# Altium footprint library Main.PcbLib: 23 footprints (part 1 of 2)
Each footprint in its own frame and in the unit in brackets; x right, y up, seen from the top. Pads: shape width x height; smd on the part's side, far side on the other; paste and mask are expansions set on the pad; w line width, h text height; cw(c..) or ccw(c..) is an arc to the next point about the centre after c.
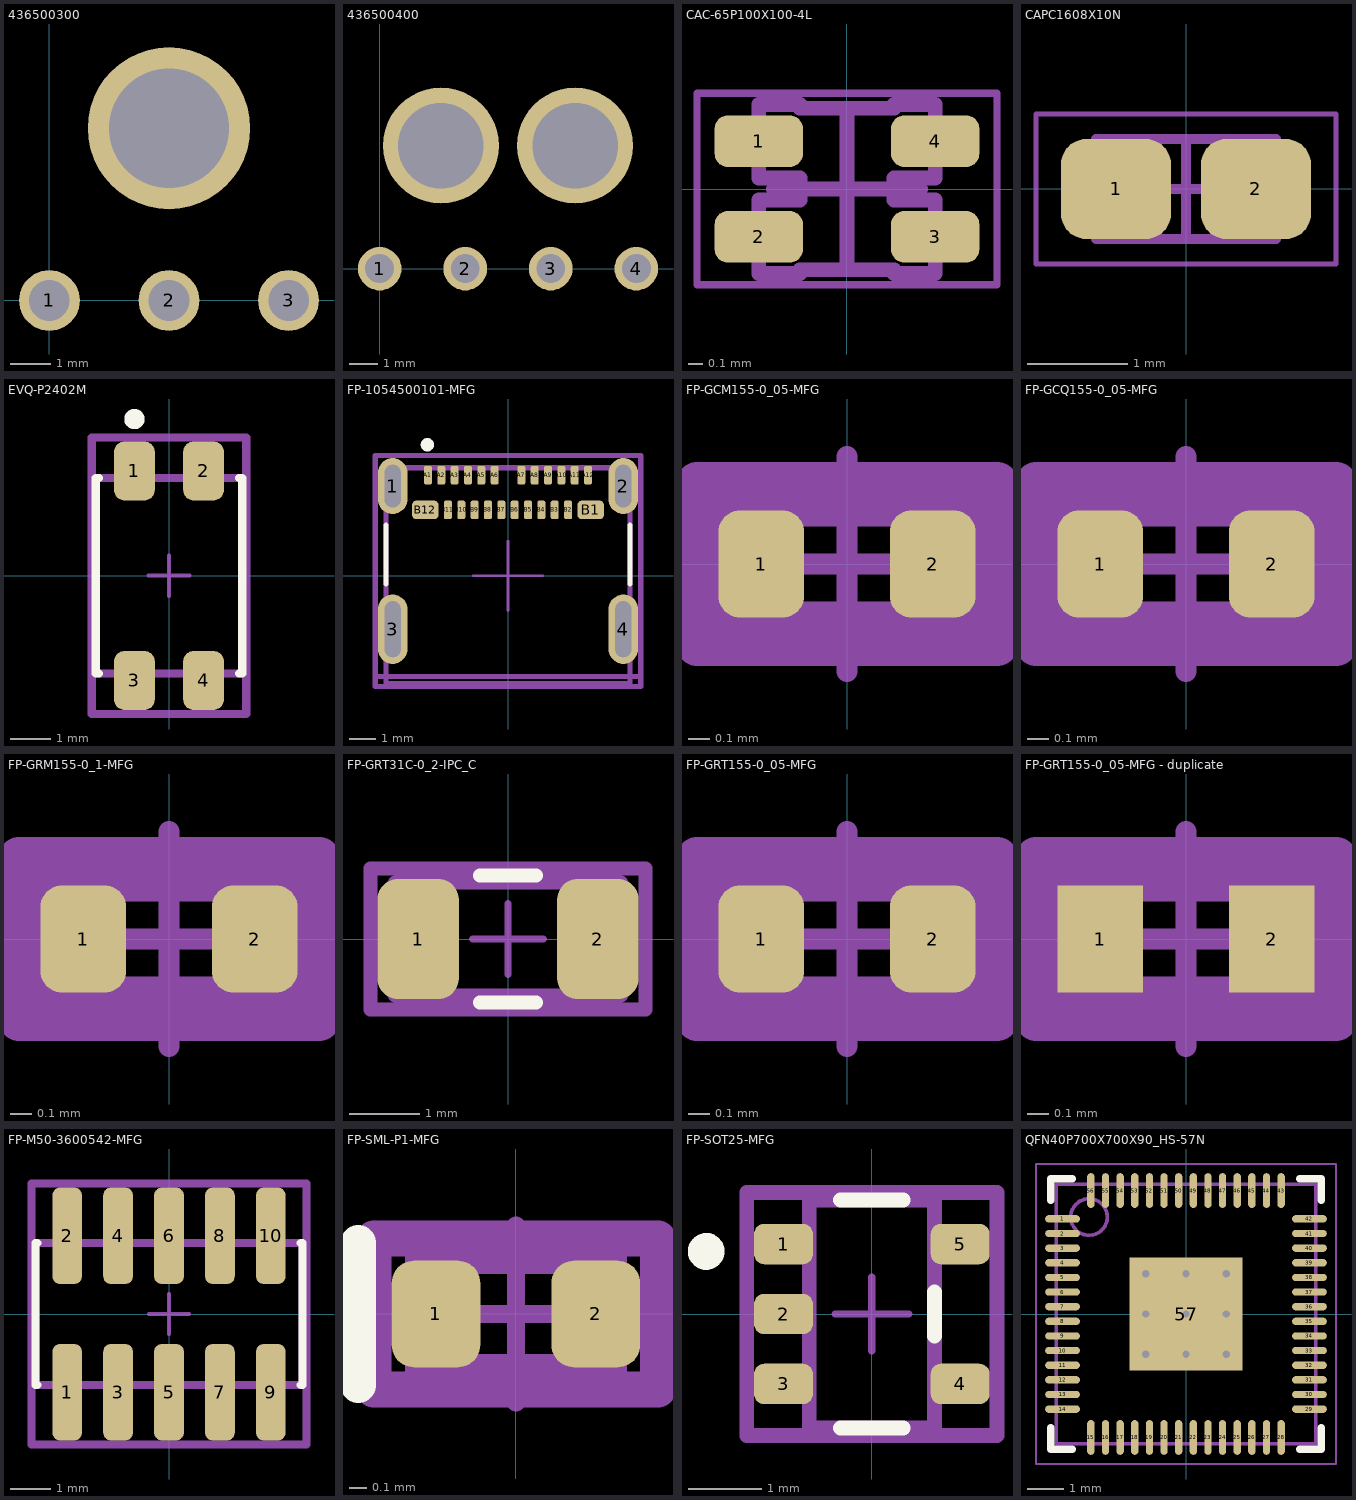
[diagram p0: the footprints below, top view; thin cyan lines are the x and y axes]

## 436500300 [mil] "Molex 3 Pin Micro-Fit Single Row"
pads (4):
  round 60 hole 40 paste+0: 1(0,0) 2(118,0) 3(236,0)
  round 160 hole 118 paste+0: ""(118,170)
3D body "436500300.stp": height 223.43, standoff -127.17, extent -131.02,-39.88 367.02,349.88

## 436500400 [mil] "Molex 4 Pin Micro-Fit Single Row"
pads (6):
  round 60 hole 40 paste+0: 1(0,0) 2(118,0) 3(236,0) 4(354,0)
  round 160 hole 118 paste+0: ""(84.5,170) ""(269.5,170)
3D body "436500400.stp": height 220.43, standoff -130.17, extent -131.07,-39.88 485.07,349.88

## CAC-65P100X100-4L [mm] "Chip Array, ConvexE, 4-Leads, Pitch 0.65mm,  Body 1.00x1.00mm,  IPC High Density"
height 0.45
pads (4):
  rrect50% 0.6x0.35 smd: 1(-0.6,0.325) 2(-0.6,-0.325) 3(0.6,-0.325) 4(0.6,0.325)
Top Assembly:
  lines w0.1: -0.6,-0.575 -0.6,-0.075 -0.32,-0.075 -0.32,0.075 -0.6,0.075 -0.6,0.575 -0.32,0.575 -0.32,0.55 0.32,0.55 0.32,0.575 0.6,0.575 0.6,0.075 0.32,0.075 0.32,-0.075 0.6,-0.075 0.6,-0.575 0.32,-0.575 0.32,-0.55 -0.32,-0.55 -0.32,-0.575 -0.6,-0.575
Top Courtyard:
  lines w0.05: -1.02,-0.65 -1.02,0.65 1.02,0.65 1.02,-0.65 -1.02,-0.65
  lines w0.1: -0.5,0 0.5,0 ; 0,-0.5 0,0.5
3D body "CAC-65P100X100-4L.step": height 0.45, standoff 0, extent -0.6,-0.55 0.6,0.55

## CAPC1608X10N [mm] "Chip Capacitor, 2-Leads, Body 1.60x0.80mm, IPC Medium Density"
height 1
pads (2):
  rrect50% 1.1x1 smd: 1(-0.7,0) 2(0.7,0)
Top Assembly:
  lines w0.1: -0.9,-0.5 0.9,-0.5 0.9,0.5 -0.9,0.5 -0.9,-0.5
Top Courtyard:
  lines w0.05: -1.5,-0.75 1.5,-0.75 1.5,0.75 -1.5,0.75 -1.5,-0.75
  lines w0.1: -0.5,0 0.5,0 ; 0,-0.5 0,0.5
3D body "CAPC1608X10N.step": height 1, standoff 0, extent -0.9,-0.5 0.9,0.5

## EVQ-P2402M [mm] "Tactile Switch"
pads (4):
  rrect50% 1x1.45 smd paste+0: 1(-0.85,2.575) 2(0.85,2.575) 3(-0.85,-2.575) 4(0.85,-2.575)
Top Overlay:
  circle w0.25: c-0.85,3.85 r0.125
  lines w0.2: -1.725,-2.4 -1.8,-2.4 -1.8,2.4 -1.725,2.4 ; 1.725,-2.4 1.8,-2.4 1.8,2.4 1.725,2.4
Mechanical 5:
  lines w0.2: -1.9,-3.4 -1.9,3.4 1.9,3.4 1.9,-3.4 -1.9,-3.4
Mechanical 13:
  lines w0.2: -1.8,-2.4 -1.8,2.4 1.8,2.4 1.8,-2.4 -1.8,-2.4
Mechanical 15:
  lines w0.2: -1.9,-3.4 -1.9,3.4 1.9,3.4 1.9,-3.4 -1.9,-3.4
Mechanical 16:
  lines w0.1: -0.5,0 0.5,0 ; 0,-0.5 0,0.5
3D body "Switch_Panasonic_Electronic_Components_EVQ-P2402M_eec.STEP": height 0.25, standoff 0, extent -1.9,-3.4 1.9,3.4

## FP-1054500101-MFG [mm]
pads (28):
  rrect100% 1.1x2.1 hole 1.6 slot 0.6 at 0 deg paste-1000 mask+0: 1(-4.32,3.36) 2(4.32,3.36)
  rrect100% 1.1x2.6 hole 2.1 slot 0.6 at 0 deg paste-1000 mask+0: 3(-4.32,-2) 4(4.32,-2)
  rrect50% 0.3x0.7 smd paste+0 mask+0: A1(-3,3.77) A2(-2.5,3.77) A3(-2,3.77) A4(-1.5,3.77) A5(-1,3.77) A6(-0.5,3.77) A7(0.5,3.77) A8(1,3.77) A9(1.5,3.77) A10(2,3.77) A11(2.5,3.77) A12(3,3.77) B2(2.25,2.47) B3(1.75,2.47) B4(1.25,2.47) B5(0.75,2.47) B6(0.25,2.47) B7(-0.25,2.47) B8(-0.75,2.47) B9(-1.25,2.47) B10(-1.75,2.47) B11(-2.25,2.47)
  rrect50% 1x0.7 smd paste+0 mask+0: B1(3.1,2.47) B12(-3.1,2.47)
Top Overlay:
  circle w0.25: c-3.02,4.91 r0.125
  lines w0.2: -4.57,-0.3 -4.57,1.9 ; 4.57,-0.3 4.57,1.9
Top 3D Body:
  lines w0.2: -4.97,-3.77 4.97,-3.77 ; -4.57,-4.05 -4.57,4.05 4.57,4.05 4.57,-4.05 -4.57,-4.05
Top Assembly:
  lines w0.2: -4.97,-4.15 -4.97,4.51 4.97,4.51 4.97,-4.15 -4.97,-4.15
Top Courtyard:
  lines w0.2: -4.97,-4.15 -4.97,4.51 4.97,4.51 4.97,-4.15 -4.97,-4.15
Top Component Center:
  lines w0.1: -1.299,0 1.299,0 ; 0,-1.299 0,1.299
3D body "1054500101.stp": height 3.23, standoff -0.73, extent -4.47,-3.9 4.47,4

## FP-GCM155-0_05-MFG [mm]
pads (2):
  rrect50% 0.4x0.5 smd paste+0 mask+0: 1(-0.4,0) 2(0.4,0)
Top 3D Body:
  lines w0.2: -0.525,-0.275 0.525,-0.275 0.525,0.275 -0.525,0.275 -0.525,-0.275
Top Assembly:
  lines w0.2: -0.7,-0.375 0.7,-0.375 0.7,0.375 -0.7,0.375 -0.7,-0.375
Top Courtyard:
  lines w0.2: -0.7,-0.375 0.7,-0.375 0.7,0.375 -0.7,0.375 -0.7,-0.375
Top Component Center:
  lines w0.1: -0.5,0 0.5,0 ; 0,-0.5 0,0.5
3D body "Cap_Murata_GCM155R71H271KA37D_eec.STEP": height 0.25, standoff 0, extent -0.7,-0.375 0.7,0.375

## FP-GCQ155-0_05-MFG [mm]
pads (2):
  rrect50% 0.4x0.5 smd paste+0 mask+0: 1(-0.4,0) 2(0.4,0)
Top 3D Body:
  lines w0.2: -0.525,-0.275 0.525,-0.275 0.525,0.275 -0.525,0.275 -0.525,-0.275
Top Assembly:
  lines w0.2: -0.7,-0.375 0.7,-0.375 0.7,0.375 -0.7,0.375 -0.7,-0.375
Top Courtyard:
  lines w0.2: -0.7,-0.375 0.7,-0.375 0.7,0.375 -0.7,0.375 -0.7,-0.375
Top Component Center:
  lines w0.1: -0.5,0 0.5,0 ; 0,-0.5 0,0.5
3D body "Cap_Murata_GCQ1555C1H3R4CB01J_eec.STEP": height 0.25, standoff 0, extent -0.7,-0.375 0.7,0.375

## FP-GRM155-0_1-MFG [mm]
pads (2):
  rrect50% 0.4x0.5 smd paste+0 mask+0: 1(-0.4,0) 2(0.4,0)
Top 3D Body:
  lines w0.2: -0.525,-0.275 0.525,-0.275 0.525,0.275 -0.525,0.275 -0.525,-0.275
Top Assembly:
  lines w0.2: -0.7,-0.375 0.7,-0.375 0.7,0.375 -0.7,0.375 -0.7,-0.375
Top Courtyard:
  lines w0.2: -0.7,-0.375 0.7,-0.375 0.7,0.375 -0.7,0.375 -0.7,-0.375
Top Component Center:
  lines w0.1: -0.5,0 0.5,0 ; 0,-0.5 0,0.5
3D body "Cap_Murata_GRM155C81E105KE11D_eec.STEP": height 0.25, standoff 0, extent -0.7,-0.375 0.7,0.375

## FP-GRT31C-0_2-IPC_C [mm]
pads (2):
  rrect50% 1.155x1.706 smd paste+0 mask+0: 1(-1.276,0) 2(1.276,0)
Top Overlay:
  lines w0.2: -0.398,-0.9 0.398,-0.9 ; -0.398,0.9 0.398,0.9
Top 3D Body:
  lines w0.2: -1.6,-0.8 -1.6,0.8 1.6,0.8 1.6,-0.8 -1.6,-0.8
Top Assembly:
  lines w0.2: -1.953,-1 -1.953,1 1.953,1 1.953,-1 -1.953,-1
Top Courtyard:
  lines w0.2: -1.953,-1 -1.953,1 1.953,1 1.953,-1 -1.953,-1
Top Component Center:
  lines w0.1: -0.5,0 0.5,0 ; 0,-0.5 0,0.5
3D body "Cap_Murata_GRT31CC80J476KE13L_eec.STEP": height 0.25, standoff 0, extent -1.953,-1 1.953,1

## FP-GRT155-0_05-MFG [mm]
pads (2):
  rrect50% 0.4x0.5 smd paste+0 mask+0: 1(-0.4,0) 2(0.4,0)
Top 3D Body:
  lines w0.2: -0.525,-0.275 -0.525,0.275 0.525,0.275 0.525,-0.275 -0.525,-0.275
Top Assembly:
  lines w0.2: -0.7,-0.375 -0.7,0.375 0.7,0.375 0.7,-0.375 -0.7,-0.375
Top Courtyard:
  lines w0.2: -0.7,-0.375 -0.7,0.375 0.7,0.375 0.7,-0.375 -0.7,-0.375
Top Component Center:
  lines w0.1: -0.5,0 0.5,0 ; 0,-0.5 0,0.5
3D body "Cap_Murata_GRT155C80G225KE13J_eec.STEP": height 0.25, standoff 0, extent -0.7,-0.375 0.7,0.375

## FP-GRT155-0_05-MFG - duplicate [mm]
pads (2):
  rect 0.4x0.5 smd paste+0 mask+0: 1(-0.4,0) 2(0.4,0)
Top 3D Body:
  lines w0.2: -0.525,-0.275 -0.525,0.275 0.525,0.275 0.525,-0.275 -0.525,-0.275
Top Assembly:
  lines w0.2: -0.7,-0.375 -0.7,0.375 0.7,0.375 0.7,-0.375 -0.7,-0.375
Top Courtyard:
  lines w0.2: -0.7,-0.375 -0.7,0.375 0.7,0.375 0.7,-0.375 -0.7,-0.375
Top Component Center:
  lines w0.1: -0.5,0 0.5,0 ; 0,-0.5 0,0.5
3D body "Cap_Murata_GRT155C80G225KE13J_eec.STEP": height 0.25, standoff 0, extent -0.7,-0.375 0.7,0.375

## FP-M50-3600542-MFG [mm]
pads (10):
  rrect50% 0.74x2.4 smd paste+0 mask+0: 1(-2.54,-1.95) 2(-2.54,1.95) 3(-1.27,-1.95) 4(-1.27,1.95) 5(0,-1.95) 6(0,1.95) 7(1.27,-1.95) 8(1.27,1.95) 9(2.54,-1.95) 10(2.54,1.95)
Top Overlay:
  lines w0.2: -3.285,-1.775 -3.325,-1.775 -3.325,1.775 -3.285,1.775 ; 3.285,-1.775 3.325,-1.775 3.325,1.775 3.285,1.775
Top 3D Body:
  lines w0.2: -3.325,-1.775 3.325,-1.775 3.325,1.775 -3.325,1.775 -3.325,-1.775
Top Assembly:
  lines w0.2: -3.425,-3.25 3.425,-3.25 3.425,3.25 -3.425,3.25 -3.425,-3.25
Top Courtyard:
  lines w0.2: -3.425,-3.25 3.425,-3.25 3.425,3.25 -3.425,3.25 -3.425,-3.25
Top Component Center:
  lines w0.1: -0.5,0 0.5,0 ; 0,-0.5 0,0.5
3D body "Conn_Harwin_M50-3600542_eec.STEP": height 0.25, standoff 0, extent -3.425,-3.25 3.425,3.25

## FP-SML-P1-MFG [mm]
pads (2):
  rrect50% 0.5x0.6 smd paste+0 mask+0: 1(-0.45,0) 2(0.45,0)
Top Overlay:
  lines w0.2: -0.889,-0.4 -0.889,0.4
Top 3D Body:
  lines w0.2: -0.525,-0.325 0.525,-0.325 0.525,0.325 -0.525,0.325 -0.525,-0.325
Top Assembly:
  lines w0.2: -0.8,-0.425 0.8,-0.425 0.8,0.425 -0.8,0.425 -0.8,-0.425
Top Courtyard:
  lines w0.2: -0.8,-0.425 0.8,-0.425 0.8,0.425 -0.8,0.425 -0.8,-0.425
Top Component Center:
  lines w0.1: -0.5,0 0.5,0 ; 0,-0.5 0,0.5
3D body "Diode_Rohm_SML-P11UTT86R_eec.STEP": height 0.25, standoff 0, extent -0.8,-0.425 0.8,0.425

## FP-SOT25-MFG [mm]
pads (5):
  rrect50% 0.8x0.55 smd paste+0: 1(-1.2,0.95) 2(-1.2,0) 3(-1.2,-0.95) 4(1.2,-0.95) 5(1.2,0.95)
Top Overlay:
  circle w0.25: c-2.25,0.85 r0.125
  lines w0.2: -0.425,-1.55 0.425,-1.55 ; -0.425,1.55 0.425,1.55 ; 0.85,-0.3 0.85,0.3
Top 3D Body:
  lines w0.2: -0.85,-1.55 0.85,-1.55 0.85,1.55 -0.85,1.55 -0.85,-1.55
Top Assembly:
  lines w0.2: -1.7,-1.65 1.7,-1.65 1.7,1.65 -1.7,1.65 -1.7,-1.65
Top Courtyard:
  lines w0.2: -1.7,-1.65 1.7,-1.65 1.7,1.65 -1.7,1.65 -1.7,-1.65
Top Component Center:
  lines w0.1: -0.5,0 0.5,0 ; 0,-0.5 0,0.5
3D body "IC_Diodes_Inc_AP2127K-3_3TRG1_eec.STEP": height 0.25, standoff 0, extent -1.7,-1.65 1.7,1.65

## QFN40P700X700X90_HS-57N [mm] "QFN, 56-Leads, Body 7.00x7.00mm, Pitch 0.40mm, Thermal Pad 3.10x3.10mm, IPC Medium Density"
height 0.9
pads (57):
  oval 0.95x0.2 smd: 1(-3.375,2.6) 2(-3.375,2.2) 3(-3.375,1.8) 4(-3.375,1.4) 5(-3.375,1) 6(-3.375,0.6) 7(-3.375,0.2) 8(-3.375,-0.2) 9(-3.375,-0.6) 10(-3.375,-1) 11(-3.375,-1.4) 12(-3.375,-1.8) 13(-3.375,-2.2) 14(-3.375,-2.6) 29(3.375,-2.6) 30(3.375,-2.2) 31(3.375,-1.8) 32(3.375,-1.4) 33(3.375,-1) 34(3.375,-0.6) 35(3.375,-0.2) 36(3.375,0.2) 37(3.375,0.6) 38(3.375,1) 39(3.375,1.4) 40(3.375,1.8) 41(3.375,2.2) 42(3.375,2.6)
  oval 0.2x0.95 smd: 15(-2.6,-3.375) 16(-2.2,-3.375) 17(-1.8,-3.375) 18(-1.4,-3.375) 19(-1,-3.375) 20(-0.6,-3.375) 21(-0.2,-3.375) 22(0.2,-3.375) 23(0.6,-3.375) 24(1,-3.375) 25(1.4,-3.375) 26(1.8,-3.375) 27(2.2,-3.375) 28(2.6,-3.375) 43(2.6,3.375) 44(2.2,3.375) 45(1.8,3.375) 46(1.4,3.375) 47(1,3.375) 48(0.6,3.375) 49(0.2,3.375) 50(-0.2,3.375) 51(-0.6,3.375) 52(-1,3.375) 53(-1.4,3.375) 54(-1.8,3.375) 55(-2.2,3.375) 56(-2.6,3.375)
  rect 3.1x3.1 smd paste-2539.97: 57(0,0)
via -1.1,1.1 diameter 0.5 hole 0.2
via 0,1.1 diameter 0.5 hole 0.2
via 1.1,1.1 diameter 0.5 hole 0.2
via -1.1,0 diameter 0.5 hole 0.2
via 0,0 diameter 0.5 hole 0.2
via 1.1,0 diameter 0.5 hole 0.2
via -1.1,-1.1 diameter 0.5 hole 0.2
via 0,-1.1 diameter 0.5 hole 0.2
via 1.1,-1.1 diameter 0.5 hole 0.2
Top Overlay:
  lines w0.2: -3.7,-3.1 -3.7,-3.7 -3.1,-3.7 ; -3.7,3.1 -3.7,3.7 -3.1,3.7 ; 3.1,-3.7 3.7,-3.7 3.7,-3.1 ; 3.1,3.7 3.7,3.7 3.7,3.1
Top Paste:
  rectangle: -1.5,-1.5 -0.1,-0.1
  rectangle: 0.1,-1.5 1.5,-0.1
  rectangle: 0.1,0.1 1.5,1.5
  rectangle: -1.5,0.1 -0.1,1.5
Mechanical 13:
  circle w0.1: c-2.65,2.65 r0.5
  lines w0.1: -3.55,-3.55 -3.55,3.55 3.55,3.55 3.55,-3.55 -3.55,-3.55
Mechanical 15:
  lines w0.05: -4.1,-4.1 -4.1,4.1 4.1,4.1 4.1,-4.1 -4.1,-4.1
  lines w0.1: -0.5,0 0.5,0 ; 0,-0.5 0,0.5
3D body "QFN40P700X700X90_HS-57N.step": height 0.9, standoff 0, extent -3.551,-3.551 3.551,3.551